# Altium footprint library TTN_Gateway_V2.3.1.PcbLib: 36 footprints (part 3 of 3)
Each footprint in its own frame and in the unit in brackets; x right, y up, seen from the top. Pads: shape width x height; smd on the part's side, far side on the other; paste and mask are expansions set on the pad; w line width, h text height; cw(c..) or ccw(c..) is an arc to the next point about the centre after c.
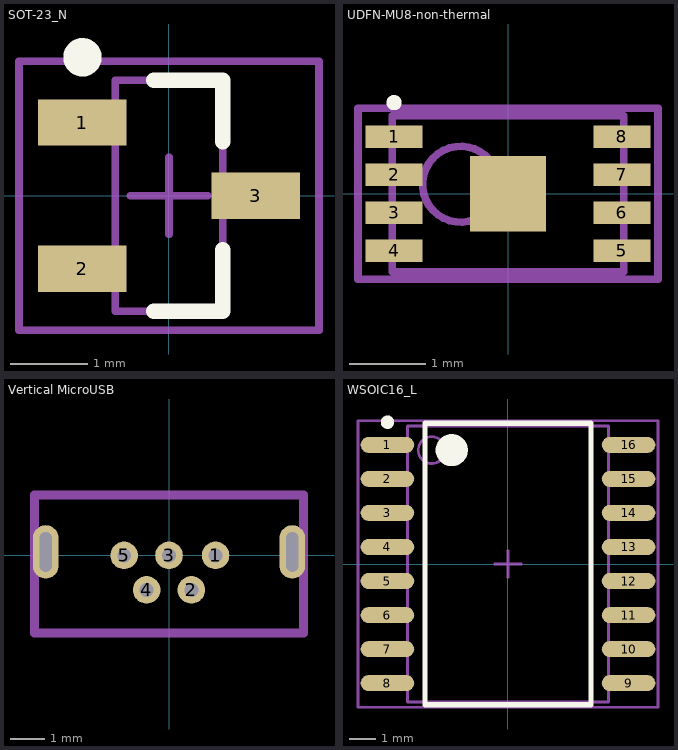
[diagram p2: the footprints below, top view; thin cyan lines are the x and y axes]

## SOT-23_N [mm]
pads (3):
  rect 1.15x0.6 smd: 1(-1.125,0.95) 2(-1.125,-0.95) 3(1.125,0)
Top Overlay:
  circle w0.25: c-1.125,1.8 r0.125
  lines w0.2: -0.2,-1.5 0.7,-1.5 0.7,-0.7 ; -0.2,1.5 0.7,1.5 0.7,0.7
Mechanical 13:
  lines w0.1: -0.7,-1.5 0.7,-1.5 0.7,1.5 -0.7,1.5 -0.7,-1.5
Mechanical 15:
  lines w0.1: -0.5,0 0.5,0 ; 0,-0.5 0,0.5 ; -1.95,-1.75 1.95,-1.75 1.95,1.75 -1.95,1.75 -1.95,-1.75
3D body: height 1.1, standoff 0, extent -0.7,-1.5 0.7,1.5

## UDFN-MU8-non-thermal [mm]
pads (9):
  rect 0.75x0.3 smd: 1(-1.5,0.75) 2(-1.5,0.25) 3(-1.5,-0.25) 4(-1.5,-0.75) 5(1.5,-0.75) 6(1.5,-0.25) 7(1.5,0.25) 8(1.5,0.75)
  rect 1x1 smd: ""(0,0)
Top Overlay:
  circle w0.1: c-1.5,1.2 r0.05
Mechanical 13:
  circle w0.1: c-0.625,0.125 r0.5
  lines w0.1: -1.525,-1.025 -1.525,1.025 1.525,1.025 1.525,-1.025 -1.525,-1.025
Mechanical 15:
  lines w0.1: -1.975,-1.125 1.975,-1.125 1.975,1.125 -1.975,1.125 -1.975,-1.125
3D body: height 0.55, standoff 0, extent -1.524,-1.024 1.524,1.024

## Vertical MicroUSB [mm]
pads (7):
  round 0.8 hole 0.4: 1(1.35,0) 2(0.65,-1) 3(0,0) 4(-0.65,-1) 5(-1.3,0)
  oval 0.75x1.55 hole 0.35 slot 1.15 at 90 deg: ""(-3.575,0.1) ""(3.575,0.1)
Mechanical 1:
  lines w0.254: -3.901,-2.25 -3.901,1.75 3.901,1.75 3.901,-2.25 -3.901,-2.25
3D body "USB3145-30-1-X_revB.step": height 6.5, standoff -2.3, extent -3.901,-2.25 3.901,1.75

## WSOIC16_L [mm]
pads (16):
  oval 2x0.6 smd: 1(-4.5,4.445) 2(-4.5,3.175) 3(-4.5,1.905) 4(-4.5,0.635) 5(-4.5,-0.635) 6(-4.5,-1.905) 7(-4.5,-3.175) 8(-4.5,-4.445) 9(4.5,-4.445) 10(4.5,-3.175) 11(4.5,-1.905) 12(4.5,-0.635) 13(4.5,0.635) 14(4.5,1.905) 15(4.5,3.175) 16(4.5,4.445)
Top Overlay:
  circle w0.25: c-4.5,5.295 r0.125
  circle w0.6: c-2.1,4.25 r0.3
  lines w0.2: -3.1,-5.25 -3.1,5.25 3.1,5.25 3.1,-5.25 -3.1,-5.25
Mechanical 13:
  circle w0.1: c-2.85,4.25 r0.5
  lines w0.1: -3.75,-5.15 -3.75,5.15 3.75,5.15 3.75,-5.15 -3.75,-5.15
Mechanical 15:
  lines w0.1: -0.5,0 0.5,0 ; 0,-0.5 0,0.5 ; -5.6,-5.35 -5.6,5.35 5.6,5.35 5.6,-5.35 -5.6,-5.35
3D body: height 2.66, standoff 0, extent -3.75,-5.15 3.75,5.15